# Altium footprint library Revo_element.PcbLib: 178 footprints (part 5 of 12)
Each footprint in its own frame and in the unit in brackets; x right, y up, seen from the top. Pads: shape width x height; smd on the part's side, far side on the other; paste and mask are expansions set on the pad; w line width, h text height; cw(c..) or ccw(c..) is an arc to the next point about the centre after c.
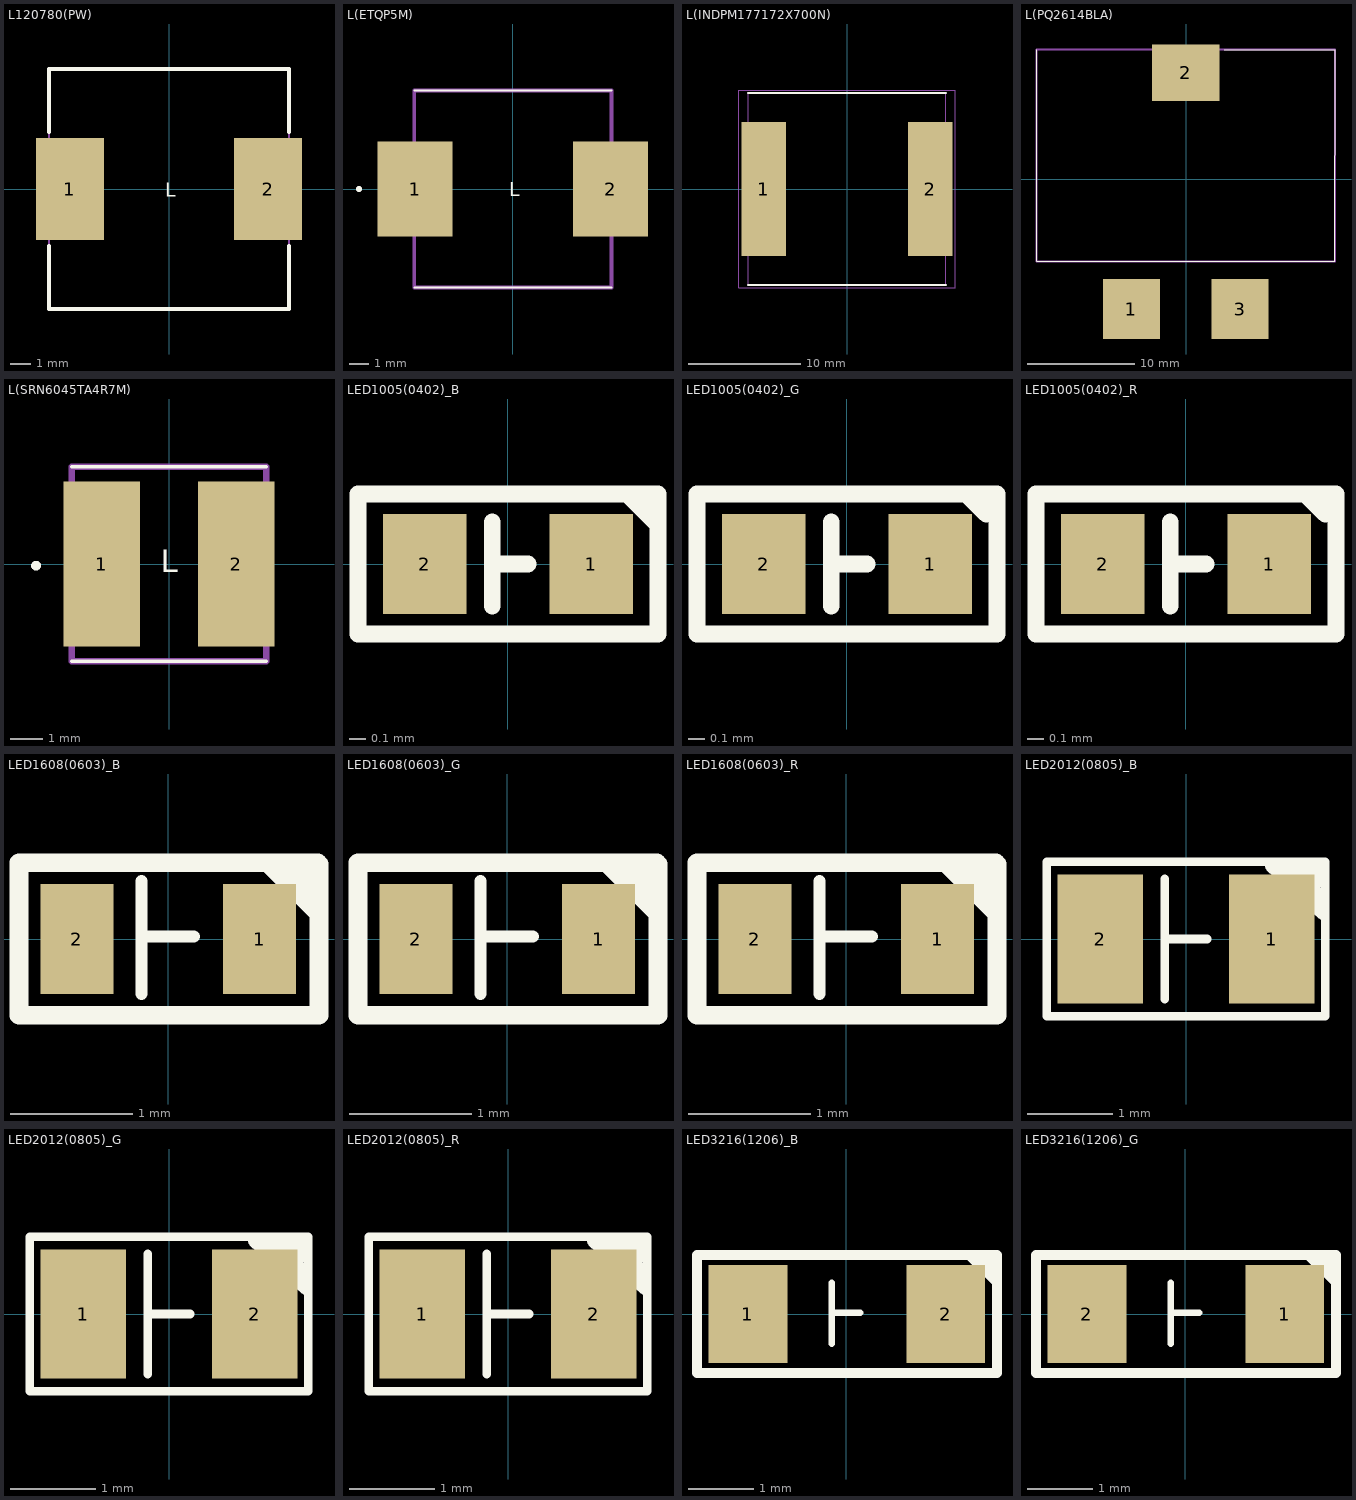
[diagram p4: the footprints below, top view; thin cyan lines are the x and y axes]

## L120780(PW) [mm] "Precision Wire Wound Inductor, 2-Leads, Body 12.50x12.50mm, IPC Medium Density"
height 4
pads (2):
  rect 3.4x5.1 smd: 1(-4.95,0) 2(4.95,0)
Top Overlay:
  lines w0.2: -6,-2.85 -6,-6 6,-6 6,-2.85 ; -6,2.85 -6,6 6,6 6,2.85
  text "L" at -0.188,-0.375 h0.7
Mechanical 13:
  lines w0.1: -6,-6 -6,6 6,6 6,-6 -6,-6
3D body "MSS1278H-124KED.stp": height 8.05, standoff 0, extent -6,-6 6,6

## L(ETQP5M) [mm]
pads (2):
  rect 3.8x4.8 smd: 1(-4.95,0) 2(4.95,0)
Top Overlay:
  circle w0.2: c-7.8,0 r0.05
  lines w0.1: -5,-5 5,-5 ; -5,5 5,5
  text "L" at -0.188,-0.375 h0.7
Mechanical 13:
  lines w0.2: -5,-5 -5,5 5,5 5,-5 -5,-5
3D body "ETQ-P5M4R7YFC.stp": height 5.39, standoff 0, extent -5.576,-4.999 5.324,5.001

## L(INDPM177172X700N) [mm]
pads (2):
  rect 3.95x11.95 smd: 1(-7.45,0) 2(7.45,0)
Top Overlay:
  lines w0.2: -8.85,-8.6 8.85,-8.6 ; -8.85,8.6 8.85,8.6
Mechanical 13:
  lines w0.1: -8.85,-8.6 -8.85,8.6 8.85,8.6 8.85,-8.6 -8.85,-8.6
Mechanical 15:
  lines w0.05: -9.675,-8.85 -9.675,8.85 9.675,8.85 9.675,-8.85 -9.675,-8.85
3D body "PA4344.104NLT.stp": height 7, standoff 0, extent -8.85,-8.6 8.85,8.6

## L(PQ2614BLA) [mm]
pads (3):
  rect 5.33x5.59 smd: 1(-5.1,-12.128) 3(5.05,-12.128)
  rect 6.35x5.28 smd: 2(-0.025,9.947)
Top Overlay:
  lines w0.1: -13.975,12.127 -13.975,-7.672 13.925,-7.672 13.975,12.127 3.575,12.127
Mechanical 13:
  lines w0.2: -13.975,-7.672 13.925,-7.672 13.925,12.127 -13.975,12.127 -13.975,-7.672
3D body "PQ2614BLA-100K.stp": height 15.1, standoff 0, extent -13.4,-14.75 13.4,12.425

## L(SRN6045TA4R7M) [mm]
pads (2):
  rect 2.35x5.1 smd: 1(-2.075,0) 2(2.075,0)
Top Overlay:
  lines w0.1: -3,-3 3,-3 -3,-3 ; -3,3 3,3 -3,3
  lines w0.2: -4.1,-0.1 ccw(c-4.1,-0.05) -4.1,0 ; -4.1,-0.1 cw(c-4.1,-0.05) -4.1,0 ; -4.1,-0.1 ccw(c-4.1,-0.05) -4.1,0
  text "L" at -0.254,-0.254 h0.7
Mechanical 13:
  lines w0.2: -3,-3 -3,3 3,3 3,-3 -3,-3
3D body "SRN6045TA-4R7M.stp": height 3.96, standoff 0, extent -2.927,-2.997 3.067,2.997

## LED1005(0402)_B [mm] "Chip LED 1005(0402)"
pads (2):
  rect 0.5x0.6 smd: 1(0.5,0) 2(-0.5,0)
Top Overlay:
  lines w0.1: -0.094,-0.254 -0.094,0.254 ; -0.094,0 0.12,0 ; 0.715,0.42 0.897,0.238 0.897,0.338 0.815,0.42 0.8,0.42 ; -0.9,-0.42 -0.9,0.42 0.9,0.42 0.9,-0.42 -0.9,-0.42
3D body "User Library-led_0402_B.step": height 0.45, standoff 0, extent -0.505,-0.25 0.505,0.25

## LED1005(0402)_G [mm] "Chip LED 1005(0402)"
pads (2):
  rect 0.5x0.6 smd: 1(0.5,0) 2(-0.5,0)
Top Overlay:
  lines w0.1: -0.094,-0.254 -0.094,0.254 ; -0.094,0 0.12,0 ; 0.715,0.42 0.835,0.3 0.835,0.4 0.815,0.42 0.8,0.42 ; -0.9,-0.42 -0.9,0.42 0.9,0.42 0.9,-0.42 -0.9,-0.42
3D body "User Library-led_0402_G.step": height 0.45, standoff 0, extent -0.499,-0.25 0.511,0.25

## LED1005(0402)_R [mm] "Chip LED 1005(0402)"
pads (2):
  rect 0.5x0.6 smd: 1(0.5,0) 2(-0.5,0)
Top Overlay:
  lines w0.1: -0.094,-0.254 -0.094,0.254 ; -0.094,0 0.12,0 ; 0.715,0.42 0.835,0.3 0.835,0.4 0.815,0.42 0.8,0.42 ; -0.9,-0.42 0.9,-0.42 0.9,0.42 -0.9,0.42 -0.9,-0.42
3D body "User Library-led_0402.step": height 0.45, standoff 0, extent -0.499,-0.25 0.511,0.25

## LED1608(0603)_B [mm] "Chip LED 1608(0603)"
pads (2):
  rect 0.6x0.9 smd: 1(0.75,0) 2(-0.75,0)
Top Overlay:
  lines w0.1: -0.22,-0.45 -0.22,0.475 ; -0.22,0.02 0.21,0.02
  lines w0.152: 0.827,0.615 1.237,0.205 1.237,0.615 ; 1.137,0.545 1.137,0.405 0.927,0.615 1.237,0.615 ; 1.237,0.615 1.237,-0.625 -1.225,-0.625 -1.225,0.625 1.227,0.625 1.237,0.615
3D body "User Library-LTST-C190TBKT.STEP": height 0.9, standoff 0, extent -0.9,-0.45 0.8,0.45

## LED1608(0603)_G [mm] "Chip LED 1608(0603)"
pads (2):
  rect 0.6x0.9 smd: 1(0.75,0) 2(-0.75,0)
Top Overlay:
  lines w0.1: -0.22,-0.45 -0.22,0.475 ; -0.22,0.02 0.21,0.02
  lines w0.152: 0.827,0.615 1.237,0.205 1.237,0.615 ; 1.137,0.545 1.137,0.405 0.927,0.615 1.237,0.615 ; 1.237,0.615 1.227,0.625 -1.225,0.625 -1.225,-0.625 1.237,-0.625 1.237,0.615
3D body "User Library-LTST-C190GKT.STEP": height 0.9, standoff 0, extent -0.875,-0.45 0.825,0.45

## LED1608(0603)_R [mm] "Chip LED 1608(0603)"
pads (2):
  rect 0.6x0.9 smd: 1(0.75,0) 2(-0.75,0)
Top Overlay:
  lines w0.1: -0.22,-0.45 -0.22,0.475 ; -0.22,0.02 0.21,0.02
  lines w0.152: 0.827,0.615 1.237,0.205 1.237,0.615 ; 1.137,0.545 1.137,0.405 0.927,0.615 1.237,0.615 ; 1.237,0.615 1.227,0.625 -1.225,0.625 -1.225,-0.625 1.237,-0.625 1.237,0.615
3D body "User Library-LTST-C190EKT.STEP": height 0.9, standoff 0, extent -0.85,-0.45 0.85,0.45

## LED2012(0805)_B [mm] "Chip LED 2012(0805)"
pads (2):
  rect 1x1.5 smd: 1(1,0) 2(-1,0)
Top Overlay:
  lines w0.1: -0.25,-0.7 -0.25,0.7 ; -0.25,0 0.25,0 ; -1.625,-0.9 -1.625,0.9 1.625,0.9 1.625,-0.9 -1.625,-0.9
  lines w0.152: 1,0.85 1.596,0.296 ; 1.1,0.85 1.196,0.854 1.589,0.488 ; 1.3,0.85 1.396,0.854 1.582,0.681 ; 1.55,0.85 1.575,0.827
3D body "SMD_0805LED_BLU.STEP": height 1.1, standoff 0, extent -1.01,-0.625 1.01,0.625

## LED2012(0805)_G [mm] "Chip LED 2012(0805)"
pads (2):
  rect 1x1.5 smd: 1(-1,0) 2(1,0)
Top Overlay:
  lines w0.1: -0.25,-0.7 -0.25,0.7 ; -0.25,0 0.25,0 ; -1.625,-0.9 1.625,-0.9 1.625,0.9 -1.625,0.9 -1.625,-0.9
  lines w0.152: 1,0.85 1.596,0.296 ; 1.1,0.85 1.196,0.854 1.589,0.488 ; 1.3,0.85 1.396,0.854 1.582,0.681 ; 1.55,0.85 1.575,0.827
3D body "SMD_0805LED_GREEN.STEP": height 1.1, standoff 0, extent -1.01,-0.625 1.01,0.625

## LED2012(0805)_R [mm] "Chip LED 2012(0805)"
pads (2):
  rect 1x1.5 smd: 1(-1,0) 2(1,0)
Top Overlay:
  lines w0.1: -0.25,-0.7 -0.25,0.7 ; -0.25,0 0.25,0 ; -1.625,-0.9 1.625,-0.9 1.625,0.9 -1.625,0.9 -1.625,-0.9
  lines w0.152: 1,0.85 1.596,0.296 ; 1.1,0.85 1.196,0.854 1.589,0.488 ; 1.3,0.85 1.396,0.854 1.582,0.681 ; 1.55,0.85 1.575,0.827
3D body "SMD_0805LED_RED.STEP": height 1.1, standoff 0, extent -1.01,-0.625 1.01,0.625

## LED3216(1206)_B [mm] "Chip LED 3216(1206)"
pads (2):
  rect 1.2x1.5 smd: 1(-1.5,0) 2(1.514,0)
Top Overlay:
  lines w0.1: -0.22,-0.45 -0.22,0.475 ; -0.22,0.02 0.21,0.02
  lines w0.152: 1.898,0.88 2.291,0.488 2.291,0.898 1.935,0.898 2.191,0.641 2.191,0.828 ; -2.277,-0.9 2.297,-0.9 2.297,0.9 -2.277,0.9 -2.277,-0.9
3D body "LED_1206_Blue.stp": height 0.9, standoff 0, extent -1.606,-0.822 1.664,0.828

## LED3216(1206)_G [mm] "Chip LED 3216(1206)"
pads (2):
  rect 1.2x1.5 smd: 1(1.514,0) 2(-1.5,0)
Top Overlay:
  lines w0.1: -0.22,-0.45 -0.22,0.475 ; -0.22,0.02 0.21,0.02
  lines w0.152: 1.898,0.88 2.291,0.488 2.291,0.898 1.935,0.898 2.191,0.641 2.191,0.828 ; -2.277,-0.9 2.297,-0.9 2.297,0.9 -2.277,0.9 -2.277,-0.9
3D body "LED_1206_Green.stp": height 0.9, standoff 0, extent -1.649,-0.851 1.621,0.799